# Altium footprint library Header_254.PcbLib: 78 footprints (part 7 of 9)
Each footprint in its own frame and in the unit in brackets; x right, y up, seen from the top. Pads: shape width x height; smd on the part's side, far side on the other; paste and mask are expansions set on the pad; w line width, h text height; cw(c..) or ccw(c..) is an arc to the next point about the centre after c.
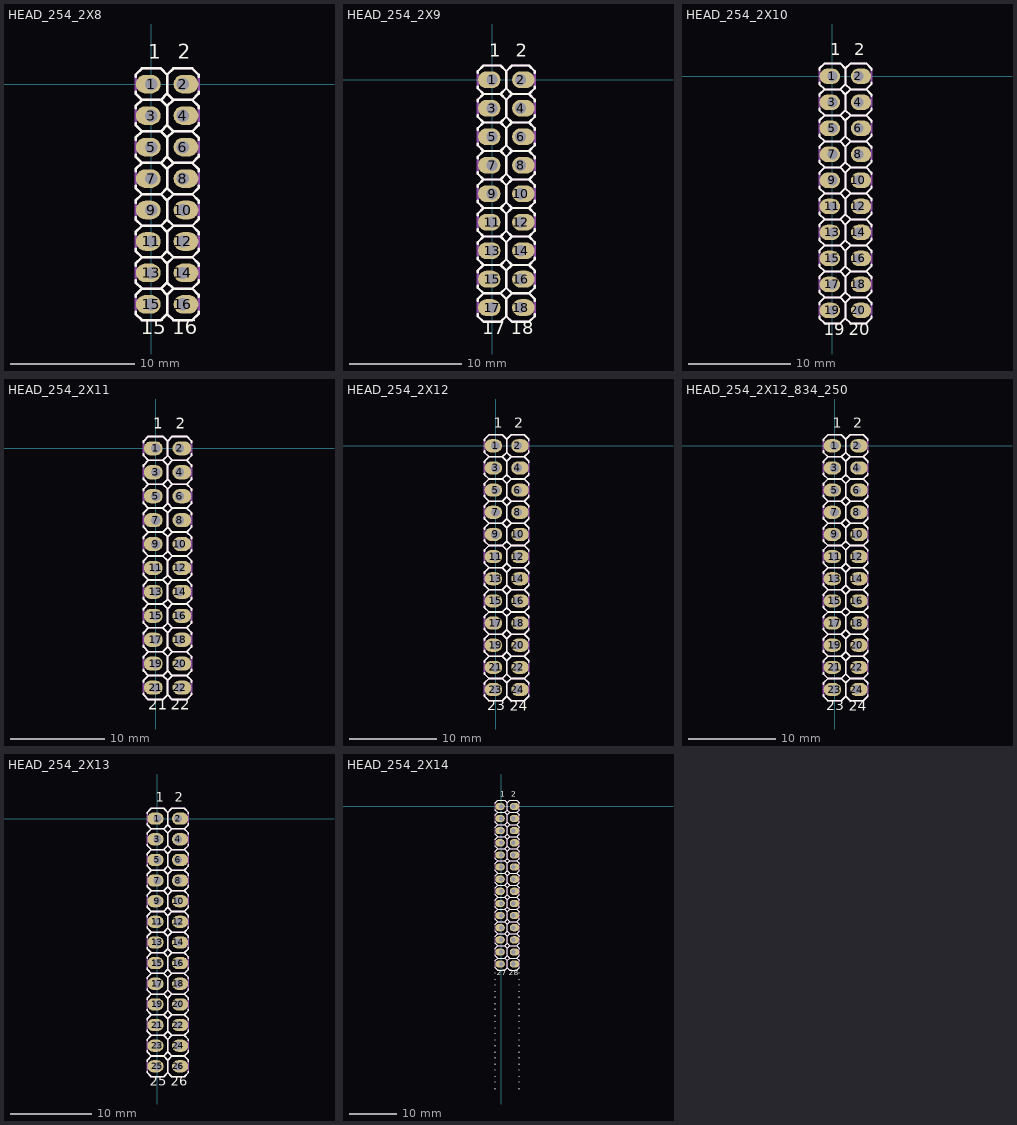
[diagram p6: the footprints below, top view; thin cyan lines are the x and y axes]

## HEAD_254_2X8 [mm] "Header 2.54mm 2x8"
pads (16):
  oval 2x1.5 hole 1 copper offset -0.25,0: 1(0,0) 3(0,-2.54) 5(0,-5.08) 7(0,-7.62) 9(0,-10.16) 11(0,-12.7) 13(0,-15.24) 15(0,-17.78)
  oval 2x1.5 hole 1 copper offset 0.25,0: 2(2.54,0) 4(2.54,-2.54) 6(2.54,-5.08) 8(2.54,-7.62) 10(2.54,-10.16) 12(2.54,-12.7) 14(2.54,-15.24) 16(2.54,-17.78)
Top Overlay:
  lines w0.2: -1.27,-18.38 -1.27,-18.542 -0.762,-19.05 0.762,-19.05 1.27,-18.542 ; -1.27,-17.18 -1.27,-17.018 -0.762,-16.51 ; -1.27,-15.84 -1.27,-16.002 -0.762,-16.51 ; -1.27,-14.64 -1.27,-14.478 -0.762,-13.97 ; -1.27,-13.3 -1.27,-13.462 -0.762,-13.97 ; -1.27,-12.1 -1.27,-11.938 -0.762,-11.43 ; -1.27,-10.76 -1.27,-10.922 -0.762,-11.43 ; -1.27,-9.56 -1.27,-9.398 -0.762,-8.89 ; -1.27,-8.22 -1.27,-8.382 -0.762,-8.89 ; -1.27,-7.02 -1.27,-6.858 -0.762,-6.35 ; -1.27,-5.68 -1.27,-5.842 -0.762,-6.35 ; -1.27,-4.48 -1.27,-4.318 -0.762,-3.81 ; -1.27,-3.14 -1.27,-3.302 -0.762,-3.81 ; -1.27,-1.94 -1.27,-1.778 -0.762,-1.27 ; -1.27,-0.6 -1.27,-0.762 -0.762,-1.27 ; -1.27,0.6 -1.27,0.762 -0.762,1.27 0.762,1.27 1.27,0.762 ; 3.81,-18.38 3.81,-18.542 3.302,-19.05 1.778,-19.05 1.27,-18.542 ; 3.81,-17.18 3.81,-17.018 3.302,-16.51 ; 3.81,-15.84 3.81,-16.002 3.302,-16.51 ; 3.81,-14.64 3.81,-14.478 3.302,-13.97 ; 3.81,-13.3 3.81,-13.462 3.302,-13.97 ; 3.81,-12.1 3.81,-11.938 3.302,-11.43 ; 3.81,-10.76 3.81,-10.922 3.302,-11.43 ; 3.81,-9.56 3.81,-9.398 3.302,-8.89 ; 3.81,-8.22 3.81,-8.382 3.302,-8.89 ; 3.81,-7.02 3.81,-6.858 3.302,-6.35 ; 3.81,-5.68 3.81,-5.842 3.302,-6.35 ; 3.81,-4.48 3.81,-4.318 3.302,-3.81 ; 3.81,-3.14 3.81,-3.302 3.302,-3.81 ; 3.81,-1.94 3.81,-1.778 3.302,-1.27 ; 3.81,-0.6 3.81,-0.762 3.302,-1.27 ; 3.81,0.6 3.81,0.762 3.302,1.27 1.778,1.27 1.27,0.762 ; -0.762,-16.51 0.762,-16.51 ; -0.762,-13.97 0.762,-13.97 ; -0.762,-11.43 0.762,-11.43 ; -0.762,-8.89 0.762,-8.89 ; -0.762,-6.35 0.762,-6.35 ; -0.762,-3.81 0.762,-3.81 ; -0.762,-1.27 0.762,-1.27 ; 0.762,-16.51 1.27,-17.018 ; 0.762,-16.51 1.27,-16.002 ; 0.762,-13.97 1.27,-14.478 ; 0.762,-13.97 1.27,-13.462 ; 0.762,-11.43 1.27,-11.938 ; 0.762,-11.43 1.27,-10.922 ; 0.762,-8.89 1.27,-9.398 ; 0.762,-8.89 1.27,-8.382 ; 0.762,-6.35 1.27,-5.842 ; 0.762,-6.35 1.27,-6.858 ; 0.762,-3.81 1.27,-3.302 ; 0.762,-3.81 1.27,-4.318 ; 0.762,-1.27 1.27,-0.762 ; 0.762,-1.27 1.27,-1.778 ; 1.27,-18.542 1.27,-17.018 ; 1.27,-17.018 1.778,-16.51 ; 1.27,-16.002 1.778,-16.51 ; 1.27,-16.002 1.27,-14.478 ; 1.27,-14.478 1.778,-13.97 ; 1.27,-13.462 1.778,-13.97 ; 1.27,-13.462 1.27,-11.938 ; 1.27,-11.938 1.778,-11.43 ; 1.27,-10.922 1.778,-11.43 ; 1.27,-10.922 1.27,-9.398 ; 1.27,-9.398 1.778,-8.89 ; 1.27,-8.382 1.778,-8.89 ; 1.27,-8.382 1.27,-6.858 ; 1.27,-6.858 1.778,-6.35 ; 1.27,-5.842 1.778,-6.35 ; 1.27,-5.842 1.27,-4.318 ; 1.27,-4.318 1.778,-3.81 ; 1.27,-3.302 1.778,-3.81 ; 1.27,-3.302 1.27,-1.778 ; 1.27,-1.778 1.778,-1.27 ; 1.27,-0.762 1.778,-1.27 ; 1.27,-0.762 1.27,0.762 ; 1.778,-16.51 3.302,-16.51 ; 1.778,-13.97 3.302,-13.97 ; 1.778,-11.43 3.302,-11.43 ; 1.778,-8.89 3.302,-8.89 ; 1.778,-6.35 3.302,-6.35 ; 1.778,-3.81 3.302,-3.81 ; 1.778,-1.27 3.302,-1.27
  text "16" at 1.684,-20.571 h2
  text "15" at -0.861,-20.571 h2
  text "2" at 2.115,1.644 h2
  text "1" at -0.236,1.644 h2
Bottom Overlay:
  text "16" at 3.396,-20.317 h2
  text "15" at 0.861,-20.317 h2
  text "2" at 2.965,0.882 h2
  text "1" at 0.236,0.882 h2
Top Assembly:
  lines w0.2: -0.762,-16.51 -1.27,-17.018 -1.27,-18.542 -0.762,-19.05 0.762,-19.05 1.27,-18.542 ; -0.762,-16.51 0.762,-16.51 ; -0.762,-16.51 -1.27,-16.002 -1.27,-14.478 -0.762,-13.97 ; -0.762,-13.97 0.762,-13.97 ; -0.762,-13.97 -1.27,-13.462 -1.27,-11.938 -0.762,-11.43 ; -0.762,-11.43 0.762,-11.43 ; -0.762,-11.43 -1.27,-10.922 -1.27,-9.398 -0.762,-8.89 ; -0.762,-8.89 0.762,-8.89 ; -0.762,-8.89 -1.27,-8.382 -1.27,-6.858 -0.762,-6.35 ; -0.762,-6.35 0.762,-6.35 ; -0.762,-6.35 -1.27,-5.842 -1.27,-4.318 -0.762,-3.81 ; -0.762,-3.81 0.762,-3.81 ; -0.762,-3.81 -1.27,-3.302 -1.27,-1.778 -0.762,-1.27 ; -0.762,-1.27 0.762,-1.27 ; -0.762,-1.27 -1.27,-0.762 -1.27,0.762 -0.762,1.27 0.762,1.27 1.27,0.762 ; 0.762,-16.51 1.27,-17.018 ; 0.762,-16.51 1.27,-16.002 ; 0.762,-13.97 1.27,-14.478 ; 0.762,-13.97 1.27,-13.462 ; 0.762,-11.43 1.27,-11.938 ; 0.762,-11.43 1.27,-10.922 ; 0.762,-8.89 1.27,-9.398 ; 0.762,-8.89 1.27,-8.382 ; 0.762,-6.35 1.27,-5.842 ; 0.762,-6.35 1.27,-6.858 ; 0.762,-3.81 1.27,-3.302 ; 0.762,-3.81 1.27,-4.318 ; 0.762,-1.27 1.27,-0.762 ; 0.762,-1.27 1.27,-1.778 ; 1.27,-18.542 1.778,-19.05 3.302,-19.05 3.81,-18.542 3.81,-17.018 3.302,-16.51 ; 1.27,-18.542 1.27,-17.018 ; 1.27,-17.018 1.778,-16.51 ; 1.27,-16.002 1.778,-16.51 ; 1.27,-16.002 1.27,-14.478 ; 1.27,-14.478 1.778,-13.97 ; 1.27,-13.462 1.778,-13.97 ; 1.27,-13.462 1.27,-11.938 ; 1.27,-11.938 1.778,-11.43 ; 1.27,-10.922 1.778,-11.43 ; 1.27,-10.922 1.27,-9.398 ; 1.27,-9.398 1.778,-8.89 ; 1.27,-8.382 1.778,-8.89 ; 1.27,-8.382 1.27,-6.858 ; 1.27,-6.858 1.778,-6.35 ; 1.27,-5.842 1.778,-6.35 ; 1.27,-5.842 1.27,-4.318 ; 1.27,-4.318 1.778,-3.81 ; 1.27,-3.302 1.778,-3.81 ; 1.27,-3.302 1.27,-1.778 ; 1.27,-1.778 1.778,-1.27 ; 1.27,-0.762 1.778,-1.27 ; 1.27,-0.762 1.27,0.762 ; 1.27,0.762 1.778,1.27 3.302,1.27 3.81,0.762 3.81,-0.762 3.302,-1.27 ; 1.778,-16.51 3.302,-16.51 ; 1.778,-13.97 3.302,-13.97 ; 1.778,-11.43 3.302,-11.43 ; 1.778,-8.89 3.302,-8.89 ; 1.778,-6.35 3.302,-6.35 ; 1.778,-3.81 3.302,-3.81 ; 1.778,-1.27 3.302,-1.27 ; 3.302,-16.51 3.81,-16.002 3.81,-14.478 3.302,-13.97 ; 3.302,-13.97 3.81,-13.462 3.81,-11.938 3.302,-11.43 ; 3.302,-11.43 3.81,-10.922 3.81,-9.398 3.302,-8.89 ; 3.302,-8.89 3.81,-8.382 3.81,-6.858 3.302,-6.35 ; 3.302,-6.35 3.81,-5.842 3.81,-4.318 3.302,-3.81 ; 3.302,-3.81 3.81,-3.302 3.81,-1.778 3.302,-1.27
3D body: height 2, standoff 0, extent -1.27,-19.05 1.27,-16.51
3D body: height 10, standoff -3, extent -0.35,-18.13 0.35,-17.43
3D body: height 2, standoff 0, extent 1.27,-19.05 3.81,-16.51
3D body: height 10, standoff -3, extent 2.19,-18.13 2.89,-17.43
3D body: height 2, standoff 0, extent -1.27,-16.51 1.27,-13.97
3D body: height 10, standoff -3, extent -0.35,-15.59 0.35,-14.89
3D body: height 2, standoff 0, extent 1.27,-16.51 3.81,-13.97
3D body: height 10, standoff -3, extent 2.19,-15.59 2.89,-14.89
3D body: height 2, standoff 0, extent -1.27,-13.97 1.27,-11.43
3D body: height 10, standoff -3, extent -0.35,-13.05 0.35,-12.35
3D body: height 2, standoff 0, extent 1.27,-13.97 3.81,-11.43
3D body: height 10, standoff -3, extent 2.19,-13.05 2.89,-12.35
3D body: height 2, standoff 0, extent -1.27,-11.43 1.27,-8.89
3D body: height 10, standoff -3, extent -0.35,-10.51 0.35,-9.81
3D body: height 2, standoff 0, extent 1.27,-11.43 3.81,-8.89
3D body: height 10, standoff -3, extent 2.19,-10.51 2.89,-9.81
3D body: height 2, standoff 0, extent -1.27,-1.27 1.27,1.27
3D body: height 10, standoff -3, extent -0.35,-0.35 0.35,0.35
3D body: height 2, standoff 0, extent 1.27,-1.27 3.81,1.27
3D body: height 10, standoff -3, extent 2.19,-0.35 2.89,0.35
3D body: height 2, standoff 0, extent -1.27,-3.81 1.27,-1.27
3D body: height 10, standoff -3, extent -0.35,-2.89 0.35,-2.19
3D body: height 2, standoff 0, extent 1.27,-3.81 3.81,-1.27
3D body: height 10, standoff -3, extent 2.19,-2.89 2.89,-2.19
3D body: height 2, standoff 0, extent -1.27,-6.35 1.27,-3.81
3D body: height 10, standoff -3, extent -0.35,-5.43 0.35,-4.73
3D body: height 2, standoff 0, extent 1.27,-6.35 3.81,-3.81
3D body: height 10, standoff -3, extent 2.19,-5.43 2.89,-4.73
3D body: height 2, standoff 0, extent -1.27,-8.89 1.27,-6.35
3D body: height 10, standoff -3, extent -0.35,-7.97 0.35,-7.27
3D body: height 2, standoff 0, extent 1.27,-8.89 3.81,-6.35
3D body: height 10, standoff -3, extent 2.19,-7.97 2.89,-7.27

## HEAD_254_2X9 [mm] "Header 2.54mm 2x9"
pads (18):
  oval 2x1.5 hole 1 copper offset -0.25,0: 1(0,0) 3(0,-2.54) 5(0,-5.08) 7(0,-7.62) 9(0,-10.16) 11(0,-12.7) 13(0,-15.24) 15(0,-17.78) 17(0,-20.32)
  oval 2x1.5 hole 1 copper offset 0.25,0: 2(2.54,0) 4(2.54,-2.54) 6(2.54,-5.08) 8(2.54,-7.62) 10(2.54,-10.16) 12(2.54,-12.7) 14(2.54,-15.24) 16(2.54,-17.78) 18(2.54,-20.32)
Top Overlay:
  lines w0.2: -1.27,-20.92 -1.27,-21.082 -0.762,-21.59 0.762,-21.59 1.27,-21.082 ; -1.27,-19.72 -1.27,-19.558 -0.762,-19.05 ; -1.27,-18.38 -1.27,-18.542 -0.762,-19.05 ; -1.27,-17.18 -1.27,-17.018 -0.762,-16.51 ; -1.27,-15.84 -1.27,-16.002 -0.762,-16.51 ; -1.27,-14.64 -1.27,-14.478 -0.762,-13.97 ; -1.27,-13.3 -1.27,-13.462 -0.762,-13.97 ; -1.27,-12.1 -1.27,-11.938 -0.762,-11.43 ; -1.27,-10.76 -1.27,-10.922 -0.762,-11.43 ; -1.27,-9.56 -1.27,-9.398 -0.762,-8.89 ; -1.27,-8.22 -1.27,-8.382 -0.762,-8.89 ; -1.27,-7.02 -1.27,-6.858 -0.762,-6.35 ; -1.27,-5.68 -1.27,-5.842 -0.762,-6.35 ; -1.27,-4.48 -1.27,-4.318 -0.762,-3.81 ; -1.27,-3.14 -1.27,-3.302 -0.762,-3.81 ; -1.27,-1.94 -1.27,-1.778 -0.762,-1.27 ; -1.27,-0.6 -1.27,-0.762 -0.762,-1.27 ; -1.27,0.6 -1.27,0.762 -0.762,1.27 0.762,1.27 1.27,0.762 ; 3.81,-20.92 3.81,-21.082 3.302,-21.59 1.778,-21.59 1.27,-21.082 ; 3.81,-19.72 3.81,-19.558 3.302,-19.05 ; 3.81,-18.38 3.81,-18.542 3.302,-19.05 ; 3.81,-17.18 3.81,-17.018 3.302,-16.51 ; 3.81,-15.84 3.81,-16.002 3.302,-16.51 ; 3.81,-14.64 3.81,-14.478 3.302,-13.97 ; 3.81,-13.3 3.81,-13.462 3.302,-13.97 ; 3.81,-12.1 3.81,-11.938 3.302,-11.43 ; 3.81,-10.76 3.81,-10.922 3.302,-11.43 ; 3.81,-9.56 3.81,-9.398 3.302,-8.89 ; 3.81,-8.22 3.81,-8.382 3.302,-8.89 ; 3.81,-7.02 3.81,-6.858 3.302,-6.35 ; 3.81,-5.68 3.81,-5.842 3.302,-6.35 ; 3.81,-4.48 3.81,-4.318 3.302,-3.81 ; 3.81,-3.14 3.81,-3.302 3.302,-3.81 ; 3.81,-1.94 3.81,-1.778 3.302,-1.27 ; 3.81,-0.6 3.81,-0.762 3.302,-1.27 ; 3.81,0.6 3.81,0.762 3.302,1.27 1.778,1.27 1.27,0.762 ; -0.762,-19.05 0.762,-19.05 ; -0.762,-16.51 0.762,-16.51 ; -0.762,-13.97 0.762,-13.97 ; -0.762,-11.43 0.762,-11.43 ; -0.762,-8.89 0.762,-8.89 ; -0.762,-6.35 0.762,-6.35 ; -0.762,-3.81 0.762,-3.81 ; -0.762,-1.27 0.762,-1.27 ; 0.762,-19.05 1.27,-19.558 ; 0.762,-19.05 1.27,-18.542 ; 0.762,-16.51 1.27,-17.018 ; 0.762,-16.51 1.27,-16.002 ; 0.762,-13.97 1.27,-14.478 ; 0.762,-13.97 1.27,-13.462 ; 0.762,-11.43 1.27,-11.938 ; 0.762,-11.43 1.27,-10.922 ; 0.762,-8.89 1.27,-9.398 ; 0.762,-8.89 1.27,-8.382 ; 0.762,-6.35 1.27,-5.842 ; 0.762,-6.35 1.27,-6.858 ; 0.762,-3.81 1.27,-3.302 ; 0.762,-3.81 1.27,-4.318 ; 0.762,-1.27 1.27,-0.762 ; 0.762,-1.27 1.27,-1.778 ; 1.27,-21.082 1.27,-19.558 ; 1.27,-19.558 1.778,-19.05 ; 1.27,-18.542 1.778,-19.05 ; 1.27,-18.542 1.27,-17.018 ; 1.27,-17.018 1.778,-16.51 ; 1.27,-16.002 1.778,-16.51 ; 1.27,-16.002 1.27,-14.478 ; 1.27,-14.478 1.778,-13.97 ; 1.27,-13.462 1.778,-13.97 ; 1.27,-13.462 1.27,-11.938 ; 1.27,-11.938 1.778,-11.43 ; 1.27,-10.922 1.778,-11.43 ; 1.27,-10.922 1.27,-9.398 ; 1.27,-9.398 1.778,-8.89 ; 1.27,-8.382 1.778,-8.89 ; 1.27,-8.382 1.27,-6.858 ; 1.27,-6.858 1.778,-6.35 ; 1.27,-5.842 1.778,-6.35 ; 1.27,-5.842 1.27,-4.318 ; 1.27,-4.318 1.778,-3.81 ; 1.27,-3.302 1.778,-3.81 ; 1.27,-3.302 1.27,-1.778 ; 1.27,-1.778 1.778,-1.27 ; 1.27,-0.762 1.778,-1.27 ; 1.27,-0.762 1.27,0.762 ; 1.778,-19.05 3.302,-19.05 ; 1.778,-16.51 3.302,-16.51 ; 1.778,-13.97 3.302,-13.97 ; 1.778,-11.43 3.302,-11.43 ; 1.778,-8.89 3.302,-8.89 ; 1.778,-6.35 3.302,-6.35 ; 1.778,-3.81 3.302,-3.81 ; 1.778,-1.27 3.302,-1.27
  text "18" at 1.682,-23.111 h2
  text "17" at -0.856,-23.121 h2
  text "2" at 2.115,1.644 h2
  text "1" at -0.236,1.644 h2
Bottom Overlay:
  text "18" at 3.398,-22.857 h2
  text "17" at 0.856,-22.867 h2
  text "2" at 2.965,0.882 h2
  text "1" at 0.236,0.882 h2
Top Assembly:
  lines w0.2: -0.762,-19.05 -1.27,-19.558 -1.27,-21.082 -0.762,-21.59 0.762,-21.59 1.27,-21.082 ; -0.762,-19.05 0.762,-19.05 ; -0.762,-19.05 -1.27,-18.542 -1.27,-17.018 -0.762,-16.51 ; -0.762,-16.51 0.762,-16.51 ; -0.762,-16.51 -1.27,-16.002 -1.27,-14.478 -0.762,-13.97 ; -0.762,-13.97 0.762,-13.97 ; -0.762,-13.97 -1.27,-13.462 -1.27,-11.938 -0.762,-11.43 ; -0.762,-11.43 0.762,-11.43 ; -0.762,-11.43 -1.27,-10.922 -1.27,-9.398 -0.762,-8.89 ; -0.762,-8.89 0.762,-8.89 ; -0.762,-8.89 -1.27,-8.382 -1.27,-6.858 -0.762,-6.35 ; -0.762,-6.35 0.762,-6.35 ; -0.762,-6.35 -1.27,-5.842 -1.27,-4.318 -0.762,-3.81 ; -0.762,-3.81 0.762,-3.81 ; -0.762,-3.81 -1.27,-3.302 -1.27,-1.778 -0.762,-1.27 ; -0.762,-1.27 0.762,-1.27 ; -0.762,-1.27 -1.27,-0.762 -1.27,0.762 -0.762,1.27 0.762,1.27 1.27,0.762 ; 0.762,-19.05 1.27,-19.558 ; 0.762,-19.05 1.27,-18.542 ; 0.762,-16.51 1.27,-17.018 ; 0.762,-16.51 1.27,-16.002 ; 0.762,-13.97 1.27,-14.478 ; 0.762,-13.97 1.27,-13.462 ; 0.762,-11.43 1.27,-11.938 ; 0.762,-11.43 1.27,-10.922 ; 0.762,-8.89 1.27,-9.398 ; 0.762,-8.89 1.27,-8.382 ; 0.762,-6.35 1.27,-5.842 ; 0.762,-6.35 1.27,-6.858 ; 0.762,-3.81 1.27,-3.302 ; 0.762,-3.81 1.27,-4.318 ; 0.762,-1.27 1.27,-0.762 ; 0.762,-1.27 1.27,-1.778 ; 1.27,-21.082 1.778,-21.59 3.302,-21.59 3.81,-21.082 3.81,-19.558 3.302,-19.05 ; 1.27,-21.082 1.27,-19.558 ; 1.27,-19.558 1.778,-19.05 ; 1.27,-18.542 1.778,-19.05 ; 1.27,-18.542 1.27,-17.018 ; 1.27,-17.018 1.778,-16.51 ; 1.27,-16.002 1.778,-16.51 ; 1.27,-16.002 1.27,-14.478 ; 1.27,-14.478 1.778,-13.97 ; 1.27,-13.462 1.778,-13.97 ; 1.27,-13.462 1.27,-11.938 ; 1.27,-11.938 1.778,-11.43 ; 1.27,-10.922 1.778,-11.43 ; 1.27,-10.922 1.27,-9.398 ; 1.27,-9.398 1.778,-8.89 ; 1.27,-8.382 1.778,-8.89 ; 1.27,-8.382 1.27,-6.858 ; 1.27,-6.858 1.778,-6.35 ; 1.27,-5.842 1.778,-6.35 ; 1.27,-5.842 1.27,-4.318 ; 1.27,-4.318 1.778,-3.81 ; 1.27,-3.302 1.778,-3.81 ; 1.27,-3.302 1.27,-1.778 ; 1.27,-1.778 1.778,-1.27 ; 1.27,-0.762 1.778,-1.27 ; 1.27,-0.762 1.27,0.762 ; 1.27,0.762 1.778,1.27 3.302,1.27 3.81,0.762 3.81,-0.762 3.302,-1.27 ; 1.778,-19.05 3.302,-19.05 ; 1.778,-16.51 3.302,-16.51 ; 1.778,-13.97 3.302,-13.97 ; 1.778,-11.43 3.302,-11.43 ; 1.778,-8.89 3.302,-8.89 ; 1.778,-6.35 3.302,-6.35 ; 1.778,-3.81 3.302,-3.81 ; 1.778,-1.27 3.302,-1.27 ; 3.302,-19.05 3.81,-18.542 3.81,-17.018 3.302,-16.51 ; 3.302,-16.51 3.81,-16.002 3.81,-14.478 3.302,-13.97 ; 3.302,-13.97 3.81,-13.462 3.81,-11.938 3.302,-11.43 ; 3.302,-11.43 3.81,-10.922 3.81,-9.398 3.302,-8.89 ; 3.302,-8.89 3.81,-8.382 3.81,-6.858 3.302,-6.35 ; 3.302,-6.35 3.81,-5.842 3.81,-4.318 3.302,-3.81 ; 3.302,-3.81 3.81,-3.302 3.81,-1.778 3.302,-1.27
3D body: height 2, standoff 0, extent -1.27,-21.59 1.27,-19.05
3D body: height 10, standoff -3, extent -0.35,-20.67 0.35,-19.97
3D body: height 2, standoff 0, extent 1.27,-21.59 3.81,-19.05
3D body: height 10, standoff -3, extent 2.19,-20.67 2.89,-19.97
3D body: height 2, standoff 0, extent -1.27,-19.05 1.27,-16.51
3D body: height 10, standoff -3, extent -0.35,-18.13 0.35,-17.43
3D body: height 2, standoff 0, extent 1.27,-19.05 3.81,-16.51
3D body: height 10, standoff -3, extent 2.19,-18.13 2.89,-17.43
3D body: height 2, standoff 0, extent -1.27,-16.51 1.27,-13.97
3D body: height 10, standoff -3, extent -0.35,-15.59 0.35,-14.89
3D body: height 2, standoff 0, extent 1.27,-16.51 3.81,-13.97
3D body: height 10, standoff -3, extent 2.19,-15.59 2.89,-14.89
3D body: height 2, standoff 0, extent -1.27,-13.97 1.27,-11.43
3D body: height 10, standoff -3, extent -0.35,-13.05 0.35,-12.35
3D body: height 2, standoff 0, extent 1.27,-13.97 3.81,-11.43
3D body: height 10, standoff -3, extent 2.19,-13.05 2.89,-12.35
3D body: height 2, standoff 0, extent -1.27,-11.43 1.27,-8.89
3D body: height 10, standoff -3, extent -0.35,-10.51 0.35,-9.81
3D body: height 2, standoff 0, extent 1.27,-11.43 3.81,-8.89
3D body: height 10, standoff -3, extent 2.19,-10.51 2.89,-9.81
3D body: height 2, standoff 0, extent -1.27,-1.27 1.27,1.27
3D body: height 10, standoff -3, extent -0.35,-0.35 0.35,0.35
3D body: height 2, standoff 0, extent 1.27,-1.27 3.81,1.27
3D body: height 10, standoff -3, extent 2.19,-0.35 2.89,0.35
3D body: height 2, standoff 0, extent -1.27,-3.81 1.27,-1.27
3D body: height 10, standoff -3, extent -0.35,-2.89 0.35,-2.19
3D body: height 2, standoff 0, extent 1.27,-3.81 3.81,-1.27
3D body: height 10, standoff -3, extent 2.19,-2.89 2.89,-2.19
3D body: height 2, standoff 0, extent -1.27,-6.35 1.27,-3.81
3D body: height 10, standoff -3, extent -0.35,-5.43 0.35,-4.73
3D body: height 2, standoff 0, extent 1.27,-6.35 3.81,-3.81
3D body: height 10, standoff -3, extent 2.19,-5.43 2.89,-4.73
3D body: height 2, standoff 0, extent -1.27,-8.89 1.27,-6.35
3D body: height 10, standoff -3, extent -0.35,-7.97 0.35,-7.27
3D body: height 2, standoff 0, extent 1.27,-8.89 3.81,-6.35
3D body: height 10, standoff -3, extent 2.19,-7.97 2.89,-7.27

## HEAD_254_2X10 [mm] "Header 2.54mm 2x10"
pads (20):
  oval 2x1.5 hole 1 copper offset -0.25,0: 1(0,0) 3(0,-2.54) 5(0,-5.08) 7(0,-7.62) 9(0,-10.16) 11(0,-12.7) 13(0,-15.24) 15(0,-17.78) 17(0,-20.32) 19(0,-22.86)
  oval 2x1.5 hole 1 copper offset 0.25,0: 2(2.54,0) 4(2.54,-2.54) 6(2.54,-5.08) 8(2.54,-7.62) 10(2.54,-10.16) 12(2.54,-12.7) 14(2.54,-15.24) 16(2.54,-17.78) 18(2.54,-20.32) 20(2.54,-22.86)
Top Overlay:
  drawing of 152 lines, arcs and shapes, not listed
  text "1" at -0.236,1.644 h2
  text "2" at 2.115,1.644 h2
  text "19" at -0.858,-25.651 h2
  text "20" at 1.614,-25.651 h2
Bottom Overlay:
  text "1" at 0.236,0.882 h2
  text "2" at 2.965,0.882 h2
  text "19" at 0.858,-25.397 h2
  text "20" at 3.466,-25.397 h2
Top Assembly:
  lines w0.2: -0.762,-21.59 -1.27,-21.082 -1.27,-19.558 -0.762,-19.05 ; -0.762,-21.59 0.762,-21.59 ; -0.762,-21.59 -1.27,-22.098 -1.27,-23.622 -0.762,-24.13 0.762,-24.13 1.27,-23.622 ; -0.762,-19.05 -1.27,-18.542 -1.27,-17.018 -0.762,-16.51 ; -0.762,-19.05 0.762,-19.05 ; -0.762,-16.51 -1.27,-16.002 -1.27,-14.478 -0.762,-13.97 ; -0.762,-16.51 0.762,-16.51 ; -0.762,-13.97 -1.27,-13.462 -1.27,-11.938 -0.762,-11.43 ; -0.762,-13.97 0.762,-13.97 ; -0.762,-11.43 -1.27,-10.922 -1.27,-9.398 -0.762,-8.89 ; -0.762,-11.43 0.762,-11.43 ; -0.762,-8.89 -1.27,-8.382 -1.27,-6.858 -0.762,-6.35 ; -0.762,-8.89 0.762,-8.89 ; -0.762,-6.35 -1.27,-5.842 -1.27,-4.318 -0.762,-3.81 ; -0.762,-6.35 0.762,-6.35 ; -0.762,-3.81 -1.27,-3.302 -1.27,-1.778 -0.762,-1.27 ; -0.762,-3.81 0.762,-3.81 ; -0.762,-1.27 -1.27,-0.762 -1.27,0.762 -0.762,1.27 0.762,1.27 1.27,0.762 ; -0.762,-1.27 0.762,-1.27 ; 0.762,-21.59 1.27,-21.082 ; 0.762,-21.59 1.27,-22.098 ; 0.762,-19.05 1.27,-18.542 ; 0.762,-19.05 1.27,-19.558 ; 0.762,-16.51 1.27,-16.002 ; 0.762,-16.51 1.27,-17.018 ; 0.762,-13.97 1.27,-13.462 ; 0.762,-13.97 1.27,-14.478 ; 0.762,-11.43 1.27,-10.922 ; 0.762,-11.43 1.27,-11.938 ; 0.762,-8.89 1.27,-8.382 ; 0.762,-8.89 1.27,-9.398 ; 0.762,-6.35 1.27,-6.858 ; 0.762,-6.35 1.27,-5.842 ; 0.762,-3.81 1.27,-4.318 ; 0.762,-3.81 1.27,-3.302 ; 0.762,-1.27 1.27,-1.778 ; 0.762,-1.27 1.27,-0.762 ; 1.27,-23.622 1.27,-22.098 ; 1.27,-23.622 1.778,-24.13 3.302,-24.13 3.81,-23.622 3.81,-22.098 3.302,-21.59 ; 1.27,-22.098 1.778,-21.59 ; 1.27,-21.082 1.27,-19.558 ; 1.27,-21.082 1.778,-21.59 ; 1.27,-19.558 1.778,-19.05 ; 1.27,-18.542 1.27,-17.018 ; 1.27,-18.542 1.778,-19.05 ; 1.27,-17.018 1.778,-16.51 ; 1.27,-16.002 1.27,-14.478 ; 1.27,-16.002 1.778,-16.51 ; 1.27,-14.478 1.778,-13.97 ; 1.27,-13.462 1.27,-11.938 ; 1.27,-13.462 1.778,-13.97 ; 1.27,-11.938 1.778,-11.43 ; 1.27,-10.922 1.27,-9.398 ; 1.27,-10.922 1.778,-11.43 ; 1.27,-9.398 1.778,-8.89 ; 1.27,-8.382 1.27,-6.858 ; 1.27,-8.382 1.778,-8.89 ; 1.27,-6.858 1.778,-6.35 ; 1.27,-5.842 1.27,-4.318 ; 1.27,-5.842 1.778,-6.35 ; 1.27,-4.318 1.778,-3.81 ; 1.27,-3.302 1.27,-1.778 ; 1.27,-3.302 1.778,-3.81 ; 1.27,-1.778 1.778,-1.27 ; 1.27,-0.762 1.27,0.762 ; 1.27,-0.762 1.778,-1.27 ; 1.27,0.762 1.778,1.27 3.302,1.27 3.81,0.762 3.81,-0.762 3.302,-1.27 ; 1.778,-21.59 3.302,-21.59 ; 1.778,-19.05 3.302,-19.05 ; 1.778,-16.51 3.302,-16.51 ; 1.778,-13.97 3.302,-13.97 ; 1.778,-11.43 3.302,-11.43 ; 1.778,-8.89 3.302,-8.89 ; 1.778,-6.35 3.302,-6.35 ; 1.778,-3.81 3.302,-3.81 ; 1.778,-1.27 3.302,-1.27 ; 3.302,-21.59 3.81,-21.082 3.81,-19.558 3.302,-19.05 ; 3.302,-19.05 3.81,-18.542 3.81,-17.018 3.302,-16.51 ; 3.302,-16.51 3.81,-16.002 3.81,-14.478 3.302,-13.97 ; 3.302,-13.97 3.81,-13.462 3.81,-11.938 3.302,-11.43 ; 3.302,-11.43 3.81,-10.922 3.81,-9.398 3.302,-8.89 ; 3.302,-8.89 3.81,-8.382 3.81,-6.858 3.302,-6.35 ; 3.302,-6.35 3.81,-5.842 3.81,-4.318 3.302,-3.81 ; 3.302,-3.81 3.81,-3.302 3.81,-1.778 3.302,-1.27
3D body: height 10, standoff -3, extent 2.19,-7.97 2.89,-7.27
3D body: height 2, standoff 0, extent 1.27,-8.89 3.81,-6.35
3D body: height 10, standoff -3, extent -0.35,-7.97 0.35,-7.27
3D body: height 2, standoff 0, extent -1.27,-8.89 1.27,-6.35
3D body: height 10, standoff -3, extent 2.19,-5.43 2.89,-4.73
3D body: height 2, standoff 0, extent 1.27,-6.35 3.81,-3.81
3D body: height 10, standoff -3, extent -0.35,-5.43 0.35,-4.73
3D body: height 2, standoff 0, extent -1.27,-6.35 1.27,-3.81
3D body: height 10, standoff -3, extent 2.19,-2.89 2.89,-2.19
3D body: height 2, standoff 0, extent 1.27,-3.81 3.81,-1.27
3D body: height 10, standoff -3, extent -0.35,-2.89 0.35,-2.19
3D body: height 2, standoff 0, extent -1.27,-3.81 1.27,-1.27
3D body: height 10, standoff -3, extent 2.19,-0.35 2.89,0.35
3D body: height 2, standoff 0, extent 1.27,-1.27 3.81,1.27
3D body: height 10, standoff -3, extent -0.35,-0.35 0.35,0.35
3D body: height 2, standoff 0, extent -1.27,-1.27 1.27,1.27
3D body: height 10, standoff -3, extent 2.19,-10.51 2.89,-9.81
3D body: height 2, standoff 0, extent 1.27,-11.43 3.81,-8.89
3D body: height 10, standoff -3, extent -0.35,-10.51 0.35,-9.81
3D body: height 2, standoff 0, extent -1.27,-11.43 1.27,-8.89
3D body: height 10, standoff -3, extent 2.19,-13.05 2.89,-12.35
3D body: height 2, standoff 0, extent 1.27,-13.97 3.81,-11.43
3D body: height 10, standoff -3, extent -0.35,-13.05 0.35,-12.35
3D body: height 2, standoff 0, extent -1.27,-13.97 1.27,-11.43
3D body: height 10, standoff -3, extent 2.19,-15.59 2.89,-14.89
3D body: height 2, standoff 0, extent 1.27,-16.51 3.81,-13.97
3D body: height 10, standoff -3, extent -0.35,-15.59 0.35,-14.89
3D body: height 2, standoff 0, extent -1.27,-16.51 1.27,-13.97
3D body: height 10, standoff -3, extent 2.19,-18.13 2.89,-17.43
3D body: height 2, standoff 0, extent 1.27,-19.05 3.81,-16.51
3D body: height 10, standoff -3, extent -0.35,-18.13 0.35,-17.43
3D body: height 2, standoff 0, extent -1.27,-19.05 1.27,-16.51
3D body: height 10, standoff -3, extent 2.19,-20.67 2.89,-19.97
3D body: height 2, standoff 0, extent 1.27,-21.59 3.81,-19.05
3D body: height 10, standoff -3, extent -0.35,-20.67 0.35,-19.97
3D body: height 2, standoff 0, extent -1.27,-21.59 1.27,-19.05
3D body: height 10, standoff -3, extent 2.19,-23.21 2.89,-22.51
3D body: height 2, standoff 0, extent 1.27,-24.13 3.81,-21.59
3D body: height 10, standoff -3, extent -0.35,-23.21 0.35,-22.51
3D body: height 2, standoff 0, extent -1.27,-24.13 1.27,-21.59

## HEAD_254_2X11 [mm] "Header 2.54mm 2x11"
pads (22):
  oval 2x1.5 hole 1 copper offset -0.25,0: 1(0,0) 3(0,-2.54) 5(0,-5.08) 7(0,-7.62) 9(0,-10.16) 11(0,-12.7) 13(0,-15.24) 15(0,-17.78) 17(0,-20.32) 19(0,-22.86) 21(0,-25.4)
  oval 2x1.5 hole 1 copper offset 0.25,0: 2(2.54,0) 4(2.54,-2.54) 6(2.54,-5.08) 8(2.54,-7.62) 10(2.54,-10.16) 12(2.54,-12.7) 14(2.54,-15.24) 16(2.54,-17.78) 18(2.54,-20.32) 20(2.54,-22.86) 22(2.54,-25.4)
Top Overlay:
  drawing of 167 lines, arcs and shapes, not listed
  text "22" at 1.618,-28.201 h2
  text "21" at -0.805,-28.201 h2
  text "2" at 2.115,1.644 h2
  text "1" at -0.236,1.644 h2
Bottom Overlay:
  text "22" at 3.462,-27.947 h2
  text "21" at 0.805,-27.947 h2
  text "2" at 2.965,0.882 h2
  text "1" at 0.236,0.882 h2
Top Assembly:
  lines w0.2: -0.762,-24.13 -1.27,-24.638 -1.27,-26.162 -0.762,-26.67 0.762,-26.67 1.27,-26.162 ; -0.762,-24.13 0.762,-24.13 ; -0.762,-24.13 -1.27,-23.622 -1.27,-22.098 -0.762,-21.59 ; -0.762,-21.59 0.762,-21.59 ; -0.762,-21.59 -1.27,-21.082 -1.27,-19.558 -0.762,-19.05 ; -0.762,-19.05 0.762,-19.05 ; -0.762,-19.05 -1.27,-18.542 -1.27,-17.018 -0.762,-16.51 ; -0.762,-16.51 0.762,-16.51 ; -0.762,-16.51 -1.27,-16.002 -1.27,-14.478 -0.762,-13.97 ; -0.762,-13.97 0.762,-13.97 ; -0.762,-13.97 -1.27,-13.462 -1.27,-11.938 -0.762,-11.43 ; -0.762,-11.43 0.762,-11.43 ; -0.762,-11.43 -1.27,-10.922 -1.27,-9.398 -0.762,-8.89 ; -0.762,-8.89 0.762,-8.89 ; -0.762,-8.89 -1.27,-8.382 -1.27,-6.858 -0.762,-6.35 ; -0.762,-6.35 0.762,-6.35 ; -0.762,-6.35 -1.27,-5.842 -1.27,-4.318 -0.762,-3.81 ; -0.762,-3.81 0.762,-3.81 ; -0.762,-3.81 -1.27,-3.302 -1.27,-1.778 -0.762,-1.27 ; -0.762,-1.27 0.762,-1.27 ; -0.762,-1.27 -1.27,-0.762 -1.27,0.762 -0.762,1.27 0.762,1.27 1.27,0.762 ; 0.762,-24.13 1.27,-24.638 ; 0.762,-24.13 1.27,-23.622 ; 0.762,-21.59 1.27,-22.098 ; 0.762,-21.59 1.27,-21.082 ; 0.762,-19.05 1.27,-19.558 ; 0.762,-19.05 1.27,-18.542 ; 0.762,-16.51 1.27,-17.018 ; 0.762,-16.51 1.27,-16.002 ; 0.762,-13.97 1.27,-14.478 ; 0.762,-13.97 1.27,-13.462 ; 0.762,-11.43 1.27,-11.938 ; 0.762,-11.43 1.27,-10.922 ; 0.762,-8.89 1.27,-9.398 ; 0.762,-8.89 1.27,-8.382 ; 0.762,-6.35 1.27,-5.842 ; 0.762,-6.35 1.27,-6.858 ; 0.762,-3.81 1.27,-3.302 ; 0.762,-3.81 1.27,-4.318 ; 0.762,-1.27 1.27,-0.762 ; 0.762,-1.27 1.27,-1.778 ; 1.27,-26.162 1.778,-26.67 3.302,-26.67 3.81,-26.162 3.81,-24.638 3.302,-24.13 ; 1.27,-26.162 1.27,-24.638 ; 1.27,-24.638 1.778,-24.13 ; 1.27,-23.622 1.778,-24.13 ; 1.27,-23.622 1.27,-22.098 ; 1.27,-22.098 1.778,-21.59 ; 1.27,-21.082 1.778,-21.59 ; 1.27,-21.082 1.27,-19.558 ; 1.27,-19.558 1.778,-19.05 ; 1.27,-18.542 1.778,-19.05 ; 1.27,-18.542 1.27,-17.018 ; 1.27,-17.018 1.778,-16.51 ; 1.27,-16.002 1.778,-16.51 ; 1.27,-16.002 1.27,-14.478 ; 1.27,-14.478 1.778,-13.97 ; 1.27,-13.462 1.778,-13.97 ; 1.27,-13.462 1.27,-11.938 ; 1.27,-11.938 1.778,-11.43 ; 1.27,-10.922 1.778,-11.43 ; 1.27,-10.922 1.27,-9.398 ; 1.27,-9.398 1.778,-8.89 ; 1.27,-8.382 1.778,-8.89 ; 1.27,-8.382 1.27,-6.858 ; 1.27,-6.858 1.778,-6.35 ; 1.27,-5.842 1.778,-6.35 ; 1.27,-5.842 1.27,-4.318 ; 1.27,-4.318 1.778,-3.81 ; 1.27,-3.302 1.778,-3.81 ; 1.27,-3.302 1.27,-1.778 ; 1.27,-1.778 1.778,-1.27 ; 1.27,-0.762 1.778,-1.27 ; 1.27,-0.762 1.27,0.762 ; 1.27,0.762 1.778,1.27 3.302,1.27 3.81,0.762 3.81,-0.762 3.302,-1.27 ; 1.778,-24.13 3.302,-24.13 ; 1.778,-21.59 3.302,-21.59 ; 1.778,-19.05 3.302,-19.05 ; 1.778,-16.51 3.302,-16.51 ; 1.778,-13.97 3.302,-13.97 ; 1.778,-11.43 3.302,-11.43 ; 1.778,-8.89 3.302,-8.89 ; 1.778,-6.35 3.302,-6.35 ; 1.778,-3.81 3.302,-3.81 ; 1.778,-1.27 3.302,-1.27 ; 3.302,-24.13 3.81,-23.622 3.81,-22.098 3.302,-21.59 ; 3.302,-21.59 3.81,-21.082 3.81,-19.558 3.302,-19.05 ; 3.302,-19.05 3.81,-18.542 3.81,-17.018 3.302,-16.51 ; 3.302,-16.51 3.81,-16.002 3.81,-14.478 3.302,-13.97 ; 3.302,-13.97 3.81,-13.462 3.81,-11.938 3.302,-11.43 ; 3.302,-11.43 3.81,-10.922 3.81,-9.398 3.302,-8.89 ; 3.302,-8.89 3.81,-8.382 3.81,-6.858 3.302,-6.35 ; 3.302,-6.35 3.81,-5.842 3.81,-4.318 3.302,-3.81 ; 3.302,-3.81 3.81,-3.302 3.81,-1.778 3.302,-1.27
3D body: height 2, standoff 0, extent -1.27,-26.67 1.27,-24.13
3D body: height 10, standoff -3, extent -0.35,-25.75 0.35,-25.05
3D body: height 2, standoff 0, extent 1.27,-26.67 3.81,-24.13
3D body: height 10, standoff -3, extent 2.19,-25.75 2.89,-25.05
3D body: height 2, standoff 0, extent -1.27,-24.13 1.27,-21.59
3D body: height 10, standoff -3, extent -0.35,-23.21 0.35,-22.51
3D body: height 2, standoff 0, extent 1.27,-24.13 3.81,-21.59
3D body: height 10, standoff -3, extent 2.19,-23.21 2.89,-22.51
3D body: height 2, standoff 0, extent -1.27,-21.59 1.27,-19.05
3D body: height 10, standoff -3, extent -0.35,-20.67 0.35,-19.97
3D body: height 2, standoff 0, extent 1.27,-21.59 3.81,-19.05
3D body: height 10, standoff -3, extent 2.19,-20.67 2.89,-19.97
3D body: height 2, standoff 0, extent -1.27,-19.05 1.27,-16.51
3D body: height 10, standoff -3, extent -0.35,-18.13 0.35,-17.43
3D body: height 2, standoff 0, extent 1.27,-19.05 3.81,-16.51
3D body: height 10, standoff -3, extent 2.19,-18.13 2.89,-17.43
3D body: height 2, standoff 0, extent -1.27,-16.51 1.27,-13.97
3D body: height 10, standoff -3, extent -0.35,-15.59 0.35,-14.89
3D body: height 2, standoff 0, extent 1.27,-16.51 3.81,-13.97
3D body: height 10, standoff -3, extent 2.19,-15.59 2.89,-14.89
3D body: height 2, standoff 0, extent -1.27,-13.97 1.27,-11.43
3D body: height 10, standoff -3, extent -0.35,-13.05 0.35,-12.35
3D body: height 2, standoff 0, extent 1.27,-13.97 3.81,-11.43
3D body: height 10, standoff -3, extent 2.19,-13.05 2.89,-12.35
3D body: height 2, standoff 0, extent -1.27,-11.43 1.27,-8.89
3D body: height 10, standoff -3, extent -0.35,-10.51 0.35,-9.81
3D body: height 2, standoff 0, extent 1.27,-11.43 3.81,-8.89
3D body: height 10, standoff -3, extent 2.19,-10.51 2.89,-9.81
3D body: height 2, standoff 0, extent -1.27,-1.27 1.27,1.27
3D body: height 10, standoff -3, extent -0.35,-0.35 0.35,0.35
3D body: height 2, standoff 0, extent 1.27,-1.27 3.81,1.27
3D body: height 10, standoff -3, extent 2.19,-0.35 2.89,0.35
3D body: height 2, standoff 0, extent -1.27,-3.81 1.27,-1.27
3D body: height 10, standoff -3, extent -0.35,-2.89 0.35,-2.19
3D body: height 2, standoff 0, extent 1.27,-3.81 3.81,-1.27
3D body: height 10, standoff -3, extent 2.19,-2.89 2.89,-2.19
3D body: height 2, standoff 0, extent -1.27,-6.35 1.27,-3.81
3D body: height 10, standoff -3, extent -0.35,-5.43 0.35,-4.73
3D body: height 2, standoff 0, extent 1.27,-6.35 3.81,-3.81
3D body: height 10, standoff -3, extent 2.19,-5.43 2.89,-4.73
3D body: height 2, standoff 0, extent -1.27,-8.89 1.27,-6.35
3D body: height 10, standoff -3, extent -0.35,-7.97 0.35,-7.27
3D body: height 2, standoff 0, extent 1.27,-8.89 3.81,-6.35
3D body: height 10, standoff -3, extent 2.19,-7.97 2.89,-7.27

## HEAD_254_2X12 [mm] "Header 2.54mm 2x12"
pads (24):
  oval 2x1.5 hole 1 copper offset -0.25,0: 1(0,0) 3(0,-2.54) 5(0,-5.08) 7(0,-7.62) 9(0,-10.16) 11(0,-12.7) 13(0,-15.24) 15(0,-17.78) 17(0,-20.32) 19(0,-22.86) 21(0,-25.4) 23(0,-27.94)
  oval 2x1.5 hole 1 copper offset 0.25,0: 2(2.54,0) 4(2.54,-2.54) 6(2.54,-5.08) 8(2.54,-7.62) 10(2.54,-10.16) 12(2.54,-12.7) 14(2.54,-15.24) 16(2.54,-17.78) 18(2.54,-20.32) 20(2.54,-22.86) 22(2.54,-25.4) 24(2.54,-27.94)
Top Overlay:
  drawing of 204 lines, arcs and shapes, not listed
  text "1" at -0.236,1.644 h2
  text "2" at 2.115,1.644 h2
  text "23" at -0.928,-30.73 h2
  text "24" at 1.614,-30.741 h2
Bottom Overlay:
  text "1" at 0.236,0.882 h2
  text "2" at 2.965,0.882 h2
  text "23" at 0.928,-30.476 h2
  text "24" at 3.466,-30.487 h2
Top Assembly:
  drawing of 158 lines, arcs and shapes, not listed
3D body: height 10, standoff -3, extent 2.19,-7.97 2.89,-7.27
3D body: height 2, standoff 0, extent 1.27,-8.89 3.81,-6.35
3D body: height 10, standoff -3, extent -0.35,-7.97 0.35,-7.27
3D body: height 2, standoff 0, extent -1.27,-8.89 1.27,-6.35
3D body: height 10, standoff -3, extent 2.19,-5.43 2.89,-4.73
3D body: height 2, standoff 0, extent 1.27,-6.35 3.81,-3.81
3D body: height 10, standoff -3, extent -0.35,-5.43 0.35,-4.73
3D body: height 2, standoff 0, extent -1.27,-6.35 1.27,-3.81
3D body: height 10, standoff -3, extent 2.19,-2.89 2.89,-2.19
3D body: height 2, standoff 0, extent 1.27,-3.81 3.81,-1.27
3D body: height 10, standoff -3, extent -0.35,-2.89 0.35,-2.19
3D body: height 2, standoff 0, extent -1.27,-3.81 1.27,-1.27
3D body: height 10, standoff -3, extent 2.19,-0.35 2.89,0.35
3D body: height 2, standoff 0, extent 1.27,-1.27 3.81,1.27
3D body: height 10, standoff -3, extent -0.35,-0.35 0.35,0.35
3D body: height 2, standoff 0, extent -1.27,-1.27 1.27,1.27
3D body: height 10, standoff -3, extent 2.19,-10.51 2.89,-9.81
3D body: height 2, standoff 0, extent 1.27,-11.43 3.81,-8.89
3D body: height 10, standoff -3, extent -0.35,-10.51 0.35,-9.81
3D body: height 2, standoff 0, extent -1.27,-11.43 1.27,-8.89
3D body: height 10, standoff -3, extent 2.19,-13.05 2.89,-12.35
3D body: height 2, standoff 0, extent 1.27,-13.97 3.81,-11.43
3D body: height 10, standoff -3, extent -0.35,-13.05 0.35,-12.35
3D body: height 2, standoff 0, extent -1.27,-13.97 1.27,-11.43
3D body: height 10, standoff -3, extent 2.19,-15.59 2.89,-14.89
3D body: height 2, standoff 0, extent 1.27,-16.51 3.81,-13.97
3D body: height 10, standoff -3, extent -0.35,-15.59 0.35,-14.89
3D body: height 2, standoff 0, extent -1.27,-16.51 1.27,-13.97
3D body: height 10, standoff -3, extent 2.19,-18.13 2.89,-17.43
3D body: height 2, standoff 0, extent 1.27,-19.05 3.81,-16.51
3D body: height 10, standoff -3, extent -0.35,-18.13 0.35,-17.43
3D body: height 2, standoff 0, extent -1.27,-19.05 1.27,-16.51
3D body: height 10, standoff -3, extent 2.19,-20.67 2.89,-19.97
3D body: height 2, standoff 0, extent 1.27,-21.59 3.81,-19.05
3D body: height 10, standoff -3, extent -0.35,-20.67 0.35,-19.97
3D body: height 2, standoff 0, extent -1.27,-21.59 1.27,-19.05
3D body: height 10, standoff -3, extent 2.19,-23.21 2.89,-22.51
3D body: height 2, standoff 0, extent 1.27,-24.13 3.81,-21.59
3D body: height 10, standoff -3, extent -0.35,-23.21 0.35,-22.51
3D body: height 2, standoff 0, extent -1.27,-24.13 1.27,-21.59
3D body: height 10, standoff -3, extent 2.19,-25.75 2.89,-25.05
3D body: height 2, standoff 0, extent 1.27,-26.67 3.81,-24.13
3D body: height 10, standoff -3, extent -0.35,-25.75 0.35,-25.05
3D body: height 2, standoff 0, extent -1.27,-26.67 1.27,-24.13
3D body: height 10, standoff -3, extent 2.19,-28.29 2.89,-27.59
3D body: height 2, standoff 0, extent 1.27,-29.21 3.81,-26.67
3D body: height 10, standoff -3, extent -0.35,-28.29 0.35,-27.59
3D body: height 2, standoff 0, extent -1.27,-29.21 1.27,-26.67

## HEAD_254_2X12_834_250 [mm] "Header 2.54mm 2x12, Height 8.34mm, flange height 2.5mm"
pads (24):
  oval 2x1.5 hole 1 copper offset -0.25,0: 1(0,0) 3(0,-2.54) 5(0,-5.08) 7(0,-7.62) 9(0,-10.16) 11(0,-12.7) 13(0,-15.24) 15(0,-17.78) 17(0,-20.32) 19(0,-22.86) 21(0,-25.4) 23(0,-27.94)
  oval 2x1.5 hole 1 copper offset 0.25,0: 2(2.54,0) 4(2.54,-2.54) 6(2.54,-5.08) 8(2.54,-7.62) 10(2.54,-10.16) 12(2.54,-12.7) 14(2.54,-15.24) 16(2.54,-17.78) 18(2.54,-20.32) 20(2.54,-22.86) 22(2.54,-25.4) 24(2.54,-27.94)
Top Overlay:
  drawing of 204 lines, arcs and shapes, not listed
  text "1" at -0.236,1.644 h2
  text "2" at 2.115,1.644 h2
  text "23" at -0.928,-30.73 h2
  text "24" at 1.614,-30.741 h2
Bottom Overlay:
  text "1" at 0.236,0.882 h2
  text "2" at 2.965,0.882 h2
  text "23" at 0.928,-30.476 h2
  text "24" at 3.466,-30.487 h2
Top Assembly:
  drawing of 158 lines, arcs and shapes, not listed
3D body: height 8.34, standoff -3, extent 2.19,-7.97 2.89,-7.27
3D body: height 2.5, standoff 0, extent 1.27,-8.89 3.81,-6.35
3D body: height 8.34, standoff -3, extent -0.35,-7.97 0.35,-7.27
3D body: height 2.5, standoff 0, extent -1.27,-8.89 1.27,-6.35
3D body: height 8.34, standoff -3, extent 2.19,-5.43 2.89,-4.73
3D body: height 2.5, standoff 0, extent 1.27,-6.35 3.81,-3.81
3D body: height 8.34, standoff -3, extent -0.35,-5.43 0.35,-4.73
3D body: height 2.5, standoff 0, extent -1.27,-6.35 1.27,-3.81
3D body: height 8.34, standoff -3, extent 2.19,-2.89 2.89,-2.19
3D body: height 2.5, standoff 0, extent 1.27,-3.81 3.81,-1.27
3D body: height 8.34, standoff -3, extent -0.35,-2.89 0.35,-2.19
3D body: height 2.5, standoff 0, extent -1.27,-3.81 1.27,-1.27
3D body: height 8.34, standoff -3, extent 2.19,-0.35 2.89,0.35
3D body: height 2.5, standoff 0, extent 1.27,-1.27 3.81,1.27
3D body: height 8.34, standoff -3, extent -0.35,-0.35 0.35,0.35
3D body: height 2.5, standoff 0, extent -1.27,-1.27 1.27,1.27
3D body: height 8.34, standoff -3, extent 2.19,-10.51 2.89,-9.81
3D body: height 2.5, standoff 0, extent 1.27,-11.43 3.81,-8.89
3D body: height 8.34, standoff -3, extent -0.35,-10.51 0.35,-9.81
3D body: height 2.5, standoff 0, extent -1.27,-11.43 1.27,-8.89
3D body: height 8.34, standoff -3, extent 2.19,-13.05 2.89,-12.35
3D body: height 2.5, standoff 0, extent 1.27,-13.97 3.81,-11.43
3D body: height 8.34, standoff -3, extent -0.35,-13.05 0.35,-12.35
3D body: height 2.5, standoff 0, extent -1.27,-13.97 1.27,-11.43
3D body: height 8.34, standoff -3, extent 2.19,-15.59 2.89,-14.89
3D body: height 2.5, standoff 0, extent 1.27,-16.51 3.81,-13.97
3D body: height 8.34, standoff -3, extent -0.35,-15.59 0.35,-14.89
3D body: height 2.5, standoff 0, extent -1.27,-16.51 1.27,-13.97
3D body: height 8.34, standoff -3, extent 2.19,-18.13 2.89,-17.43
3D body: height 2.5, standoff 0, extent 1.27,-19.05 3.81,-16.51
3D body: height 8.34, standoff -3, extent -0.35,-18.13 0.35,-17.43
3D body: height 2.5, standoff 0, extent -1.27,-19.05 1.27,-16.51
3D body: height 8.34, standoff -3, extent 2.19,-20.67 2.89,-19.97
3D body: height 2.5, standoff 0, extent 1.27,-21.59 3.81,-19.05
3D body: height 8.34, standoff -3, extent -0.35,-20.67 0.35,-19.97
3D body: height 2.5, standoff 0, extent -1.27,-21.59 1.27,-19.05
3D body: height 8.34, standoff -3, extent 2.19,-23.21 2.89,-22.51
3D body: height 2.5, standoff 0, extent 1.27,-24.13 3.81,-21.59
3D body: height 8.34, standoff -3, extent -0.35,-23.21 0.35,-22.51
3D body: height 2.5, standoff 0, extent -1.27,-24.13 1.27,-21.59
3D body: height 8.34, standoff -3, extent 2.19,-25.75 2.89,-25.05
3D body: height 2.5, standoff 0, extent 1.27,-26.67 3.81,-24.13
3D body: height 8.34, standoff -3, extent -0.35,-25.75 0.35,-25.05
3D body: height 2.5, standoff 0, extent -1.27,-26.67 1.27,-24.13
3D body: height 8.34, standoff -3, extent 2.19,-28.29 2.89,-27.59
3D body: height 2.5, standoff 0, extent 1.27,-29.21 3.81,-26.67
3D body: height 8.34, standoff -3, extent -0.35,-28.29 0.35,-27.59
3D body: height 2.5, standoff 0, extent -1.27,-29.21 1.27,-26.67

## HEAD_254_2X13 [mm] "Header 2.54mm 2x13"
pads (26):
  oval 2x1.5 hole 1 copper offset -0.25,0: 1(0,0) 3(0,-2.54) 5(0,-5.08) 7(0,-7.62) 9(0,-10.16) 11(0,-12.7) 13(0,-15.24) 15(0,-17.78) 17(0,-20.32) 19(0,-22.86) 21(0,-25.4) 23(0,-27.94) 25(0,-30.48)
  oval 2x1.5 hole 1 copper offset 0.25,0: 2(2.54,0) 4(2.54,-2.54) 6(2.54,-5.08) 8(2.54,-7.62) 10(2.54,-10.16) 12(2.54,-12.7) 14(2.54,-15.24) 16(2.54,-17.78) 18(2.54,-20.32) 20(2.54,-22.86) 22(2.54,-25.4) 24(2.54,-27.94) 26(2.54,-30.48)
Top Overlay:
  drawing of 197 lines, arcs and shapes, not listed
  text "1" at -0.236,1.644 h2
  text "2" at 2.115,1.644 h2
  text "25" at -0.933,-33.271 h2
  text "26" at 1.612,-33.271 h2
Bottom Overlay:
  text "1" at 0.236,0.882 h2
  text "2" at 2.965,0.882 h2
  text "25" at 0.933,-33.017 h2
  text "26" at 3.468,-33.017 h2
Top Assembly:
  drawing of 171 lines, arcs and shapes, not listed
3D body: height 10, standoff -3, extent 2.19,-7.97 2.89,-7.27
3D body: height 2, standoff 0, extent 1.27,-8.89 3.81,-6.35
3D body: height 10, standoff -3, extent -0.35,-7.97 0.35,-7.27
3D body: height 2, standoff 0, extent -1.27,-8.89 1.27,-6.35
3D body: height 10, standoff -3, extent 2.19,-5.43 2.89,-4.73
3D body: height 2, standoff 0, extent 1.27,-6.35 3.81,-3.81
3D body: height 10, standoff -3, extent -0.35,-5.43 0.35,-4.73
3D body: height 2, standoff 0, extent -1.27,-6.35 1.27,-3.81
3D body: height 10, standoff -3, extent 2.19,-2.89 2.89,-2.19
3D body: height 2, standoff 0, extent 1.27,-3.81 3.81,-1.27
3D body: height 10, standoff -3, extent -0.35,-2.89 0.35,-2.19
3D body: height 2, standoff 0, extent -1.27,-3.81 1.27,-1.27
3D body: height 10, standoff -3, extent 2.19,-0.35 2.89,0.35
3D body: height 2, standoff 0, extent 1.27,-1.27 3.81,1.27
3D body: height 10, standoff -3, extent -0.35,-0.35 0.35,0.35
3D body: height 2, standoff 0, extent -1.27,-1.27 1.27,1.27
3D body: height 10, standoff -3, extent 2.19,-10.51 2.89,-9.81
3D body: height 2, standoff 0, extent 1.27,-11.43 3.81,-8.89
3D body: height 10, standoff -3, extent -0.35,-10.51 0.35,-9.81
3D body: height 2, standoff 0, extent -1.27,-11.43 1.27,-8.89
3D body: height 10, standoff -3, extent 2.19,-13.05 2.89,-12.35
3D body: height 2, standoff 0, extent 1.27,-13.97 3.81,-11.43
3D body: height 10, standoff -3, extent -0.35,-13.05 0.35,-12.35
3D body: height 2, standoff 0, extent -1.27,-13.97 1.27,-11.43
3D body: height 10, standoff -3, extent 2.19,-15.59 2.89,-14.89
3D body: height 2, standoff 0, extent 1.27,-16.51 3.81,-13.97
3D body: height 10, standoff -3, extent -0.35,-15.59 0.35,-14.89
3D body: height 2, standoff 0, extent -1.27,-16.51 1.27,-13.97
3D body: height 10, standoff -3, extent 2.19,-18.13 2.89,-17.43
3D body: height 2, standoff 0, extent 1.27,-19.05 3.81,-16.51
3D body: height 10, standoff -3, extent -0.35,-18.13 0.35,-17.43
3D body: height 2, standoff 0, extent -1.27,-19.05 1.27,-16.51
3D body: height 10, standoff -3, extent 2.19,-20.67 2.89,-19.97
3D body: height 2, standoff 0, extent 1.27,-21.59 3.81,-19.05
3D body: height 10, standoff -3, extent -0.35,-20.67 0.35,-19.97
3D body: height 2, standoff 0, extent -1.27,-21.59 1.27,-19.05
3D body: height 10, standoff -3, extent 2.19,-23.21 2.89,-22.51
3D body: height 2, standoff 0, extent 1.27,-24.13 3.81,-21.59
3D body: height 10, standoff -3, extent -0.35,-23.21 0.35,-22.51
3D body: height 2, standoff 0, extent -1.27,-24.13 1.27,-21.59
3D body: height 10, standoff -3, extent 2.19,-25.75 2.89,-25.05
3D body: height 2, standoff 0, extent 1.27,-26.67 3.81,-24.13
3D body: height 10, standoff -3, extent -0.35,-25.75 0.35,-25.05
3D body: height 2, standoff 0, extent -1.27,-26.67 1.27,-24.13
3D body: height 10, standoff -3, extent 2.19,-28.29 2.89,-27.59
3D body: height 2, standoff 0, extent 1.27,-29.21 3.81,-26.67
3D body: height 10, standoff -3, extent -0.35,-28.29 0.35,-27.59
3D body: height 2, standoff 0, extent -1.27,-29.21 1.27,-26.67
3D body: height 10, standoff -3, extent 2.19,-30.83 2.89,-30.13
3D body: height 2, standoff 0, extent 1.27,-31.75 3.81,-29.21
3D body: height 10, standoff -3, extent -0.35,-30.83 0.35,-30.13
3D body: height 2, standoff 0, extent -1.27,-31.75 1.27,-29.21

## HEAD_254_2X14 [mm] "Header 2.54mm 2x14"
pads (28):
  oval 2x1.5 hole 1 copper offset -0.25,0: 1(0,0) 3(0,-2.54) 5(0,-5.08) 7(0,-7.62) 9(0,-10.16) 11(0,-12.7) 13(0,-15.24) 15(0,-17.78) 17(0,-20.32) 19(0,-22.86) 21(0,-25.4) 23(0,-27.94) 25(0,-30.48) 27(0,-33.02)
  oval 2x1.5 hole 1 copper offset 0.25,0: 2(2.54,0) 4(2.54,-2.54) 6(2.54,-5.08) 8(2.54,-7.62) 10(2.54,-10.16) 12(2.54,-12.7) 14(2.54,-15.24) 16(2.54,-17.78) 18(2.54,-20.32) 20(2.54,-22.86) 22(2.54,-25.4) 24(2.54,-27.94) 26(2.54,-30.48) 28(2.54,-33.02)
Top Overlay:
  drawing of 252 lines, arcs and shapes, not listed
  text "28" at 1.61,-35.811 h2
  text "27" at -0.928,-35.821 h2
  text "2" at 2.115,1.644 h2
  text "1" at -0.236,1.644 h2
Bottom Overlay:
  text "28" at 3.47,-35.557 h2
  text "27" at 0.928,-35.567 h2
  text "2" at 2.965,0.882 h2
  text "1" at 0.236,0.882 h2
Top Assembly:
  drawing of 184 lines, arcs and shapes, not listed
3D body: height 2, standoff 0, extent -1.27,-34.29 1.27,-31.75
3D body: height 10, standoff -3, extent -0.35,-33.37 0.35,-32.67
3D body: height 2, standoff 0, extent 1.27,-34.29 3.81,-31.75
3D body: height 10, standoff -3, extent 2.19,-33.37 2.89,-32.67
3D body: height 2, standoff 0, extent -1.27,-31.75 1.27,-29.21
3D body: height 10, standoff -3, extent -0.35,-30.83 0.35,-30.13
3D body: height 2, standoff 0, extent 1.27,-31.75 3.81,-29.21
3D body: height 10, standoff -3, extent 2.19,-30.83 2.89,-30.13
3D body: height 2, standoff 0, extent -1.27,-29.21 1.27,-26.67
3D body: height 10, standoff -3, extent -0.35,-28.29 0.35,-27.59
3D body: height 2, standoff 0, extent 1.27,-29.21 3.81,-26.67
3D body: height 10, standoff -3, extent 2.19,-28.29 2.89,-27.59
3D body: height 2, standoff 0, extent -1.27,-26.67 1.27,-24.13
3D body: height 10, standoff -3, extent -0.35,-25.75 0.35,-25.05
3D body: height 2, standoff 0, extent 1.27,-26.67 3.81,-24.13
3D body: height 10, standoff -3, extent 2.19,-25.75 2.89,-25.05
3D body: height 2, standoff 0, extent -1.27,-24.13 1.27,-21.59
3D body: height 10, standoff -3, extent -0.35,-23.21 0.35,-22.51
3D body: height 2, standoff 0, extent 1.27,-24.13 3.81,-21.59
3D body: height 10, standoff -3, extent 2.19,-23.21 2.89,-22.51
3D body: height 2, standoff 0, extent -1.27,-21.59 1.27,-19.05
3D body: height 10, standoff -3, extent -0.35,-20.67 0.35,-19.97
3D body: height 2, standoff 0, extent 1.27,-21.59 3.81,-19.05
3D body: height 10, standoff -3, extent 2.19,-20.67 2.89,-19.97
3D body: height 2, standoff 0, extent -1.27,-19.05 1.27,-16.51
3D body: height 10, standoff -3, extent -0.35,-18.13 0.35,-17.43
3D body: height 2, standoff 0, extent 1.27,-19.05 3.81,-16.51
3D body: height 10, standoff -3, extent 2.19,-18.13 2.89,-17.43
3D body: height 2, standoff 0, extent -1.27,-16.51 1.27,-13.97
3D body: height 10, standoff -3, extent -0.35,-15.59 0.35,-14.89
3D body: height 2, standoff 0, extent 1.27,-16.51 3.81,-13.97
3D body: height 10, standoff -3, extent 2.19,-15.59 2.89,-14.89
3D body: height 2, standoff 0, extent -1.27,-13.97 1.27,-11.43
3D body: height 10, standoff -3, extent -0.35,-13.05 0.35,-12.35
3D body: height 2, standoff 0, extent 1.27,-13.97 3.81,-11.43
3D body: height 10, standoff -3, extent 2.19,-13.05 2.89,-12.35
3D body: height 2, standoff 0, extent -1.27,-11.43 1.27,-8.89
3D body: height 10, standoff -3, extent -0.35,-10.51 0.35,-9.81
3D body: height 2, standoff 0, extent 1.27,-11.43 3.81,-8.89
3D body: height 10, standoff -3, extent 2.19,-10.51 2.89,-9.81
3D body: height 2, standoff 0, extent -1.27,-1.27 1.27,1.27
3D body: height 10, standoff -3, extent -0.35,-0.35 0.35,0.35
3D body: height 2, standoff 0, extent 1.27,-1.27 3.81,1.27
3D body: height 10, standoff -3, extent 2.19,-0.35 2.89,0.35
3D body: height 2, standoff 0, extent -1.27,-3.81 1.27,-1.27
3D body: height 10, standoff -3, extent -0.35,-2.89 0.35,-2.19
3D body: height 2, standoff 0, extent 1.27,-3.81 3.81,-1.27
3D body: height 10, standoff -3, extent 2.19,-2.89 2.89,-2.19
3D body: height 2, standoff 0, extent -1.27,-6.35 1.27,-3.81
3D body: height 10, standoff -3, extent -0.35,-5.43 0.35,-4.73
3D body: height 2, standoff 0, extent 1.27,-6.35 3.81,-3.81
3D body: height 10, standoff -3, extent 2.19,-5.43 2.89,-4.73
3D body: height 2, standoff 0, extent -1.27,-8.89 1.27,-6.35
3D body: height 10, standoff -3, extent -0.35,-7.97 0.35,-7.27
3D body: height 2, standoff 0, extent 1.27,-8.89 3.81,-6.35
3D body: height 10, standoff -3, extent 2.19,-7.97 2.89,-7.27